# Altium schematic symbol library Switch Board Lib.SchLib: 2 symbols
Pins are listed as number, name and electrical type; pins without a type are passive.

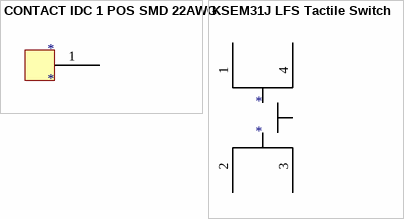
[diagram p0: symbols CONTACT IDC 1 POS SMD 22AWG to KSEM31J LFS Tactile Switch]

## CONTACT IDC 1 POS SMD 22AWG
designator *
footprint CONTACT IDC 1 POS SMD 22AWG
pins: 1

## KSEM31J LFS Tactile Switch
designator *
footprint KSEM31J LFS Tactile Switch
pins: 1 A, 2 B, 3 B, 4 A